# Altium footprint library EmbSD Lib 0v1.PcbLib: 17 footprints (part 2 of 2)
Each footprint in its own frame and in the unit in brackets; x right, y up, seen from the top. Pads: shape width x height; smd on the part's side, far side on the other; paste and mask are expansions set on the pad; w line width, h text height; cw(c..) or ccw(c..) is an arc to the next point about the centre after c.
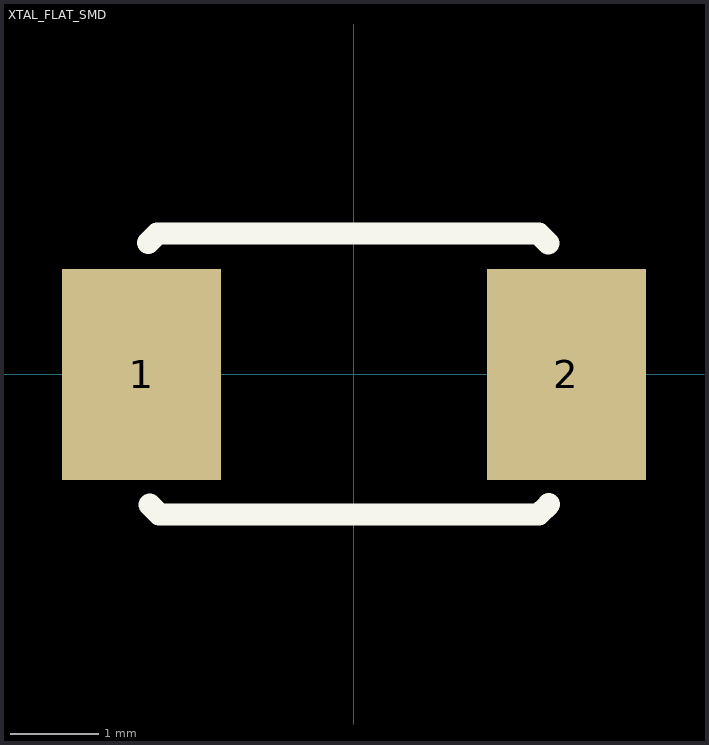
[diagram p1: the footprint, top view; thin cyan lines are the x and y axes]

## XTAL_FLAT_SMD [mm]
height 1.35
pads (2):
  rect 1.8x2.4 smd: 1(-2.412,0) 2(2.413,0)
Top Overlay:
  lines w0.254: -2.335,1.498 -2.232,1.6 2.097,1.6 2.205,1.492 ; -2.319,-1.481 -2.211,-1.589 2.097,-1.589 2.212,-1.474
3D body: height 1.02, standoff 0.02, extent -2.576,-1.6 2.424,1.6